# EAGLE library part ER-OLEDM2002-1 (library PP_Displays)
Manufacturer Part #: ER-OLEDM2002-1 Manufacturer: Buy Display Description: I2C 20x2 OLED Serial Character Display Module Screen
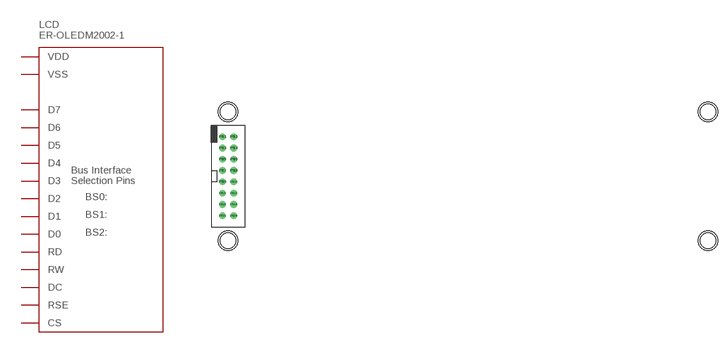
[diagram p2: symbol with the pads of ER-OLEDM2002-1; footprint ER-OLEDM2002-1]

Designator prefix LCD

## ER-OLEDM2002-1  [ER-OLEDM2002-1]
P$1  VSS
P$2  VDD
P$3  D7
P$4  D6
P$5  D5
P$6  D4
P$7  D3
P$8  D2
P$9  D1
P$10  D0
P$11  RD
P$12  RW
P$13  DC
P$14  RSE
P$15  CS

## Footprint ER-OLEDM2002-1 (pad centres in mm)
drill 1: P$1 -55.27,8.89; P$2 -52.73,8.89; P$3 -55.27,6.35; P$4 -52.73,6.35; P$5 -55.27,3.81; P$6 -52.73,3.81; P$7 -55.27,1.27; P$8 -52.73,1.27; P$9 -55.27,-1.27; P$10 -52.73,-1.27; P$11 -55.27,-3.81; P$12 -52.73,-3.81; P$13 -55.27,-6.35; P$14 -52.73,-6.35; P$15 -55.27,-8.89; P$16 -52.73,-8.89
hole 3.5 at -54,14.5
hole 3.5 at 54,14.5
hole 3.5 at -54,-14.5
hole 3.5 at 54,-14.5